# Altium schematic symbol library SCH - INTERFACE - CAN - Infineon TLE9471-3ES.Schlib: 1 symbol
Pins are listed as number, name and electrical type; pins without a type are passive.

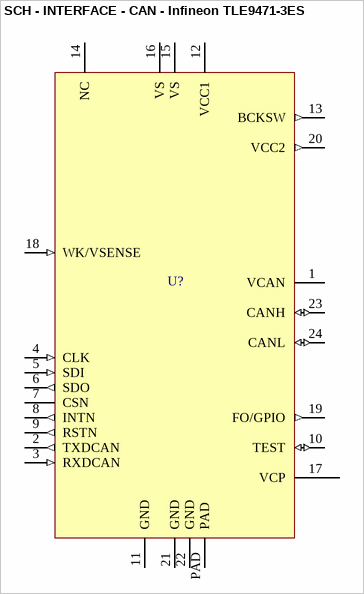
[diagram p0: symbol SCH - INTERFACE - CAN - Infineon TLE9471-3ES]

## SCH - INTERFACE - CAN - Infineon TLE9471-3ES
designator U?
footprint PG-TSDSO-24-1
pins: 1 VCAN (power) "Supply input; for internal HS-CAN cell", 2 TXDCAN (out) "Transmit CAN", 3 RXDCAN (in) "Receive CAN", 4 CLK (in) "SPI Data Input, into SBC (= MOSI)", 5 SDI (in) "SPI Data Input; into SBC (=MOSI)", 6 SDO (out) "SPI Data Output; out of SBC (=MISO)", 7 CSN (oc) "SPI Chhip Select Not Input, active low", 8 INTN (out) "Interrupt Output; used as wake-up flag for microcontroller in SBC Stop or  Normal Mode and for indicating failures. Active low.  During start-up used to set the SBC configuration in case of watchdog trigger  failure. External pull-up sets config 1/3, no external pull-up sets config 2/4.", 9 RSTN (out) "Reset Output; active low, internal pull-up", 10 TEST (io) "Test Pin; Connect to VCC1 to activate SBC Development Mode (see  Chapter 5.1.7). Integrated pull-down resistor.  Connect to GND for normal user mode operation", 11 GND (power) "Ground, LDO1 Power GND", 12 VCC1 (power) "Digitlal I/O Pin Voltage Supply; Must be connected with the buffered VCC1  voltage (see also Figure 52)", 13 BCKSW (out) "Voltage Regulator Output 1", 14 NC "not connected; internally not bonded", 15 VS (power) "Supply Voltage; Supply for VCC1 power stage - both VS pins must be connected  together on same battery potential for proper operation; Connected to Battery  Voltage with Reverse Protection Diode and Filter against EMC", 16 VS (power) "Supply Voltage; Main supply of device - both VS pins must be connected  together on same battery potential for proper operation; Connected to Battery  Voltage with Reverse Protection Diode and Filter against EMC", 17 VCP (power) "Charge Pump Output; For driving the gate of external N-channel MOSFETs, e.g.  for reverse polarity protection or Kl.30 switch. Always place a 1kΩ resistor in  series for protection", 18 WK/VSENSE (in) "Wake Input; Sense Input; Alternative function: HV-measurement function input", 19 FO/GPIO (out) "Fail Output; Open Drain Output, active low;  GPIO; Alternative function: configurable pin as WK, or LS, or HS supplied by  VS (default is FO, see also Chapter 11.1.1)  Sense Output; Alternative function: if HV-measurement function is configured", 20 VCC2 (out) "Voltage Regulator Output 2", 21 GND (power) "Ground; Analog GND", 22 GND (power) "Ground; CAN GND", 23 CANH (io) "CAN High Bus Pin", 24 CANL (io) "CAN Low Bus Pin", PAD (power) "Cooling Tab - Exposed Die Pad; For cooling purposes only, do not use as an  electrical ground"